# Altium schematic symbol library can_controller.SchLib: 1 symbol
Pins are listed as number, name and electrical type; pins without a type are passive.

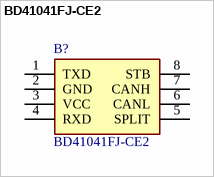
[diagram p0: symbol BD41041FJ-CE2]

## BD41041FJ-CE2
designator B?
ROHM Semiconductor CAN Transceiver for Automotive; Geometry.Height: 1.65mm; Mouser Part Number: 755-BD41041FJ-CE2; Mouser Price/Stock: https://www.mouser.co.uk/ProductDetail/ROHM-Semiconductor/BD41041FJ-CE2?qs=%252BEew9%252B0nqrCizAYMbF4Vxg%3D%3D; Manufacturer_Name: ROHM Semiconductor; Manufacturer_Part_Number: BD41041FJ-CE2; Datasheet Link: https://datasheet.datasheetarchive.com/originals/distributors/Datasheets_SAMA/414644ee1dc91df04c2a44596c540576.pdf
footprint SOIC127P600X165-8N
pins: 1 TXD, 2 GND, 3 VCC, 4 RXD, 5 SPLIT, 6 CANL, 7 CANH, 8 STB